# Altium integrated library TI Power Management Linear Regulator Single Channel LDO (400-7500mA).IntLib: 1408 symbols (part 1 of 60)
Pins are listed as number, name and electrical type; pins without a type are passive.

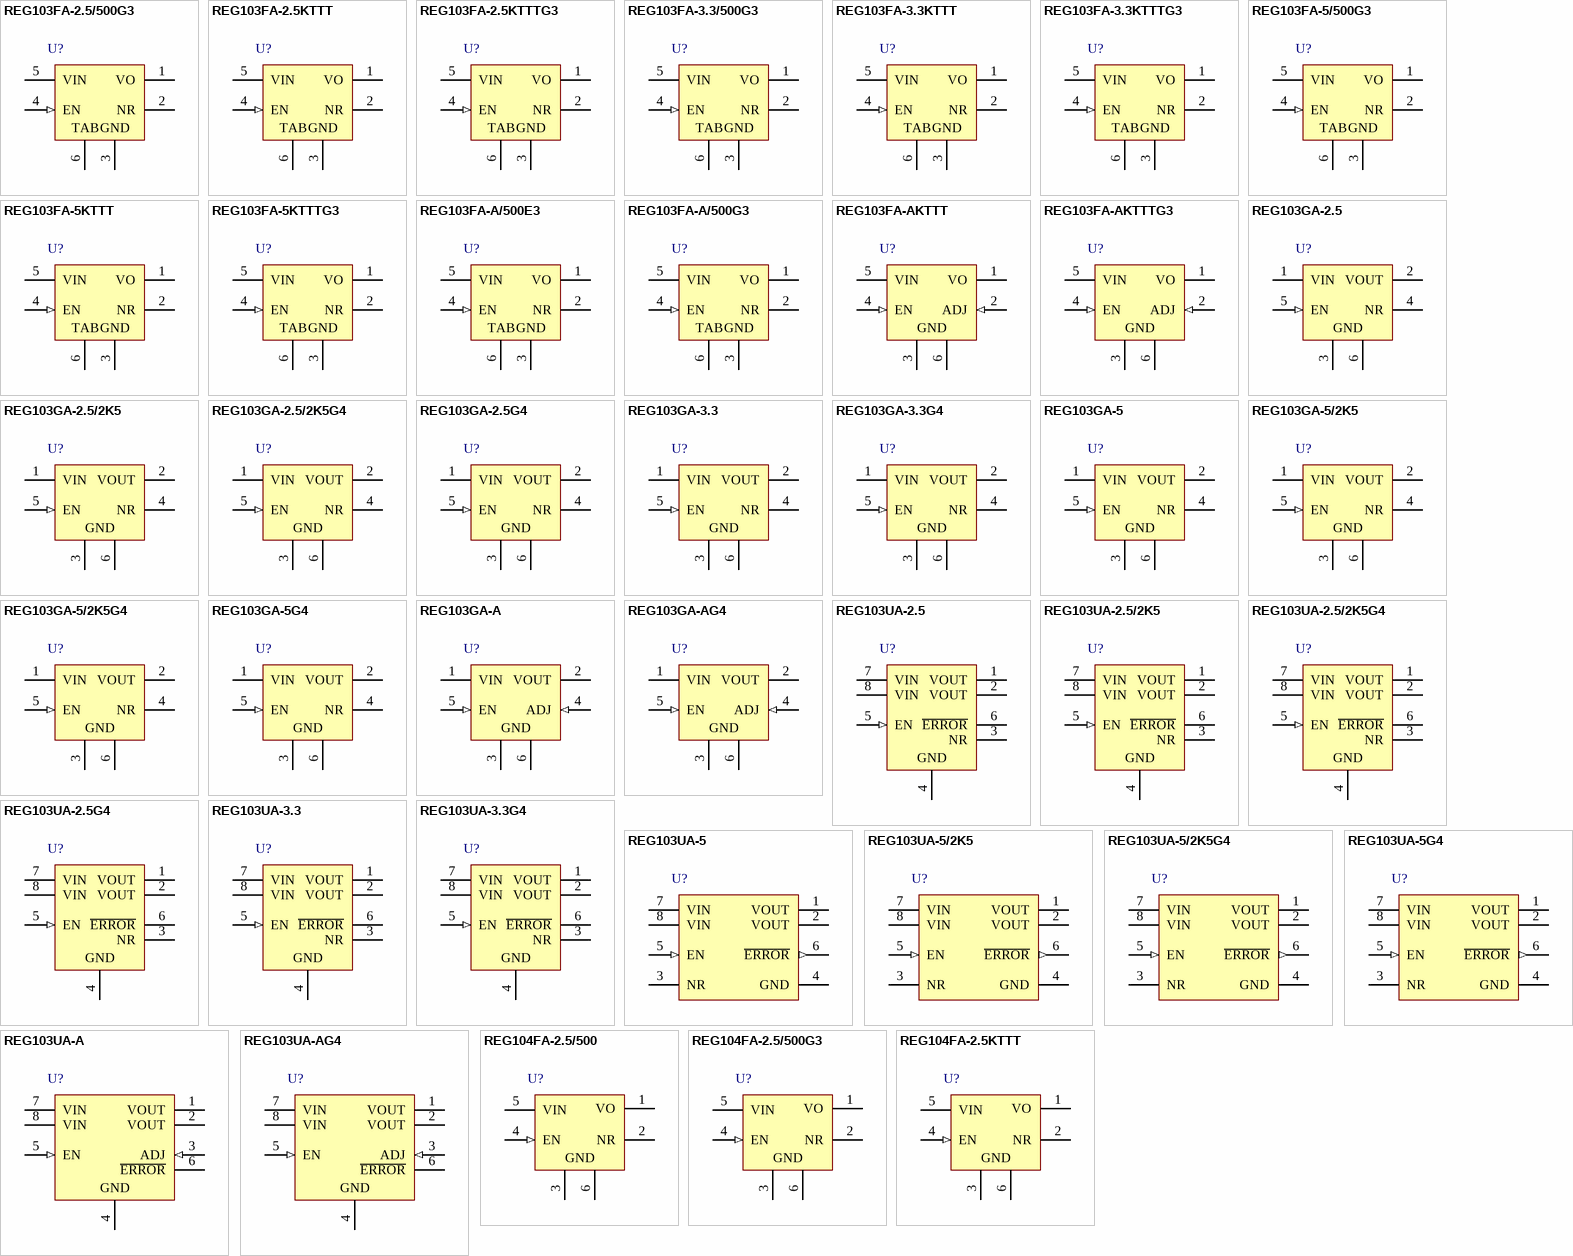
[diagram p0: symbols REG103FA-2.5/500G3 to REG104FA-2.5KTTT]

## REG103FA-2.5/500G3
designator U?
Single Output Fast Transient Response LDO, 500 mA, Fixed 2.5 V Output, 2.1 to 15 V Input, 5-pin DDPAK (KTT), -55 to 125 degC, Green (RoHS & no Sb/Br); Manufacturer: Texas Instruments; PartNumber: REG103FA-2.5/500G3; Accuracy(%): 2; Fixed Output Options(V): 2.5; Iout(Max)(A): 0.5; Power Good: TRUE; Rating: Catalog; SubFamily: Single Channel LDO; Vdo(Typ)(mV): 115; Vin(Max)(V): 15; Vin(Min)(V): 2.1; Vout Adj(Max)(V): 3; DatasheetVersion: SBVS010D; PackageVersion: 4200577-3/F; PackageReference: KTT5; PackageDescription: 3-Pin Plastic Flange Mount, Body 10.16 x 10.34 mm, Pitch 1.7 mm; Supplier 1: Digi-Key; Supplier Part Number 1: REG103FA-2.5/500G3-ND; Supplier 2: Mouser; Supplier Part Number 2: 595-REG103FA25500G3; Eco-Plan: Green (RoHS & no Sb/Br); Iq(Typ)(mA): 0.5; Vout Adj(Min)(V): 2.5; Mounting Technology: Surface Mount; Code_JEDEC: TO-263; ComponentLink1Description: Manufacturer URL; ComponentLink1URL: http://www.ti.com/; ComponentLink2Description: Datasheet; ComponentLink2URL: http://www.ti.com/general/docs/lit/getliterature.tsp?genericPartNumber=REG103-25&fileType=pdf; ComponentLink3Description: Package Specification; ComponentLink3URL: http://www.ti.com/litv/pdf/mpsf007e
footprint TI-KTT5_N (DPAK, 5-Leads, Body 10.16x8.925mm, Pitch 1.7mm, IPC Medium Density)
footprint TI-KTT5_L (DPAK, 5-Leads, Body 10.16x8.925mm, Pitch 1.7mm, IPC High Density)
footprint TI-KTT5_M (DPAK, 5-Leads, Body 10.16x8.925mm, Pitch 1.7mm, IPC Low Density)
pins: 1 VO (power), 2 NR, 3 GND (power), 4 EN (in), 5 VIN (power), 6 TAB (power)

## REG103FA-2.5KTTT
designator U?
Single Output Fast Transient Response LDO, 500 mA, Fixed 2.5 V Output, 2.1 to 15 V Input, 5-pin DDPAK (KTT), -55 to 125 degC, Green (RoHS & no Sb/Br); Manufacturer: Texas Instruments; PartNumber: REG103FA-2.5KTTT; Accuracy(%): 2; Fixed Output Options(V): 2.5; Iout(Max)(A): 0.5; Power Good: TRUE; Rating: Catalog; SubFamily: Single Channel LDO; Vdo(Typ)(mV): 115; Vin(Max)(V): 15; Vin(Min)(V): 2.1; Vout Adj(Max)(V): 3; DatasheetVersion: SBVS010D; PackageVersion: 4200577-3/F; PackageReference: KTT5; PackageDescription: 3-Pin Plastic Flange Mount, Body 10.16 x 10.34 mm, Pitch 1.7 mm; Supplier 1: Digi-Key; Supplier Part Number 1: 296-15993-2-ND; Supplier 2: Digi-Key; Supplier Part Number 2: 296-15993-1-ND; Supplier 3: Digi-Key; Supplier Part Number 3: 296-15993-6-ND; Supplier 4: Mouser; Supplier Part Number 4: 595-REG103FA-2.5KTTT; Eco-Plan: Green (RoHS & no Sb/Br); Iq(Typ)(mA): 0.5; Vout Adj(Min)(V): 2.5; Mounting Technology: Surface Mount; Code_JEDEC: TO-263; ComponentLink1Description: Manufacturer URL; ComponentLink1URL: http://www.ti.com/; ComponentLink2Description: Datasheet; ComponentLink2URL: http://www.ti.com/general/docs/lit/getliterature.tsp?genericPartNumber=REG103-25&fileType=pdf; ComponentLink3Description: Package Specification; ComponentLink3URL: http://www.ti.com/litv/pdf/mpsf007e
footprint TI-KTT5_N (DPAK, 5-Leads, Body 10.16x8.925mm, Pitch 1.7mm, IPC Medium Density)
footprint TI-KTT5_L (DPAK, 5-Leads, Body 10.16x8.925mm, Pitch 1.7mm, IPC High Density)
footprint TI-KTT5_M (DPAK, 5-Leads, Body 10.16x8.925mm, Pitch 1.7mm, IPC Low Density)
pins: 1 VO (power), 2 NR, 3 GND (power), 4 EN (in), 5 VIN (power), 6 TAB (power)

## REG103FA-2.5KTTTG3
designator U?
Single Output Fast Transient Response LDO, 500 mA, Fixed 2.5 V Output, 2.1 to 15 V Input, 5-pin DDPAK (KTT), -55 to 125 degC, Green (RoHS & no Sb/Br); Manufacturer: Texas Instruments; PartNumber: REG103FA-2.5KTTTG3; Accuracy(%): 2; Fixed Output Options(V): 2.5; Iout(Max)(A): 0.5; Power Good: TRUE; Rating: Catalog; SubFamily: Single Channel LDO; Vdo(Typ)(mV): 115; Vin(Max)(V): 15; Vin(Min)(V): 2.1; Vout Adj(Max)(V): 3; DatasheetVersion: SBVS010D; PackageVersion: 4200577-3/F; PackageReference: KTT5; PackageDescription: 3-Pin Plastic Flange Mount, Body 10.16 x 10.34 mm, Pitch 1.7 mm; Supplier 1: Digi-Key; Supplier Part Number 1: REG103FA-2.5KTTTG3-ND; Supplier 2: Mouser; Supplier Part Number 2: 595-REG103FA25KTTTG3; Eco-Plan: Green (RoHS & no Sb/Br); Iq(Typ)(mA): 0.5; Vout Adj(Min)(V): 2.5; Mounting Technology: Surface Mount; Code_JEDEC: TO-263; ComponentLink1Description: Manufacturer URL; ComponentLink1URL: http://www.ti.com/; ComponentLink2Description: Datasheet; ComponentLink2URL: http://www.ti.com/general/docs/lit/getliterature.tsp?genericPartNumber=REG103-25&fileType=pdf; ComponentLink3Description: Package Specification; ComponentLink3URL: http://www.ti.com/litv/pdf/mpsf007e
footprint TI-KTT5_N (DPAK, 5-Leads, Body 10.16x8.925mm, Pitch 1.7mm, IPC Medium Density)
footprint TI-KTT5_L (DPAK, 5-Leads, Body 10.16x8.925mm, Pitch 1.7mm, IPC High Density)
footprint TI-KTT5_M (DPAK, 5-Leads, Body 10.16x8.925mm, Pitch 1.7mm, IPC Low Density)
pins: 1 VO (power), 2 NR, 3 GND (power), 4 EN (in), 5 VIN (power), 6 TAB (power)

## REG103FA-3.3/500G3
designator U?
Single Output Fast Transient Response LDO, 500 mA, Fixed 3.3 V Output, 2.1 to 15 V Input, 5-pin DDPAK (KTT), -55 to 125 degC, Green (RoHS & no Sb/Br); Manufacturer: Texas Instruments; PartNumber: REG103FA-3.3/500G3; Accuracy(%): 2; Fixed Output Options(V): 3.3; Iout(Max)(A): 0.5; Power Good: TRUE; Rating: Catalog; SubFamily: Single Channel LDO; Vdo(Typ)(mV): 115; Vin(Max)(V): 15; Vin(Min)(V): 2.1; DatasheetVersion: SBVS010D; PackageVersion: 4200577-3/F; PackageReference: KTT5; PackageDescription: 3-Pin Plastic Flange Mount, Body 10.16 x 10.34 mm, Pitch 1.7 mm; Supplier 1: Digi-Key; Supplier Part Number 1: REG103FA-3.3/500G3-ND; Supplier 2: Mouser; Supplier Part Number 2: 595-REG103FA-33500G3; Eco-Plan: Green (RoHS & no Sb/Br); Iq(Typ)(mA): 0.5; Vout Adj(Max)(V): 3.3; Vout Adj(Min)(V): 3.3; Mounting Technology: Surface Mount; Code_JEDEC: TO-263; ComponentLink1Description: Manufacturer URL; ComponentLink1URL: http://www.ti.com/; ComponentLink2Description: Datasheet; ComponentLink2URL: http://www.ti.com/general/docs/lit/getliterature.tsp?genericPartNumber=REG103-33&fileType=pdf; ComponentLink3Description: Package Specification; ComponentLink3URL: http://www.ti.com/litv/pdf/mpsf007e
footprint TI-KTT5_N (DPAK, 5-Leads, Body 10.16x8.925mm, Pitch 1.7mm, IPC Medium Density)
footprint TI-KTT5_L (DPAK, 5-Leads, Body 10.16x8.925mm, Pitch 1.7mm, IPC High Density)
footprint TI-KTT5_M (DPAK, 5-Leads, Body 10.16x8.925mm, Pitch 1.7mm, IPC Low Density)
pins: 1 VO (power), 2 NR, 3 GND (power), 4 EN (in), 5 VIN (power), 6 TAB (power)

## REG103FA-3.3KTTT
designator U?
Single Output Fast Transient Response LDO, 500 mA, Fixed 3.3 V Output, 2.1 to 15 V Input, 5-pin DDPAK (KTT), -55 to 125 degC, Green (RoHS & no Sb/Br); Manufacturer: Texas Instruments; PartNumber: REG103FA-3.3KTTT; Accuracy(%): 2; Fixed Output Options(V): 3.3; Iout(Max)(A): 0.5; Power Good: TRUE; Rating: Catalog; SubFamily: Single Channel LDO; Vdo(Typ)(mV): 115; Vin(Max)(V): 15; Vin(Min)(V): 2.1; DatasheetVersion: SBVS010D; PackageVersion: 4200577-3/F; PackageReference: KTT5; PackageDescription: 3-Pin Plastic Flange Mount, Body 10.16 x 10.34 mm, Pitch 1.7 mm; Supplier 1: Digi-Key; Supplier Part Number 1: 296-15996-2-ND; Supplier 2: Digi-Key; Supplier Part Number 2: 296-15996-1-ND; Supplier 3: Digi-Key; Supplier Part Number 3: 296-15996-6-ND; Supplier 4: Newark; Supplier Part Number 4: 87H2549; Supplier 5: Mouser; Supplier Part Number 5: 595-REG103FA-3.3KTTT; Eco-Plan: Green (RoHS & no Sb/Br); Iq(Typ)(mA): 0.5; Vout Adj(Max)(V): 3.3; Vout Adj(Min)(V): 3.3; Mounting Technology: Surface Mount; Code_JEDEC: TO-263; ComponentLink1Description: Manufacturer URL; ComponentLink1URL: http://www.ti.com/; ComponentLink2Description: Datasheet; ComponentLink2URL: http://www.ti.com/general/docs/lit/getliterature.tsp?genericPartNumber=REG103-33&fileType=pdf; ComponentLink3Description: Package Specification; ComponentLink3URL: http://www.ti.com/litv/pdf/mpsf007e
footprint TI-KTT5_N (DPAK, 5-Leads, Body 10.16x8.925mm, Pitch 1.7mm, IPC Medium Density)
footprint TI-KTT5_L (DPAK, 5-Leads, Body 10.16x8.925mm, Pitch 1.7mm, IPC High Density)
footprint TI-KTT5_M (DPAK, 5-Leads, Body 10.16x8.925mm, Pitch 1.7mm, IPC Low Density)
pins: 1 VO (power), 2 NR, 3 GND (power), 4 EN (in), 5 VIN (power), 6 TAB (power)

## REG103FA-3.3KTTTG3
designator U?
Single Output Fast Transient Response LDO, 500 mA, Fixed 3.3 V Output, 2.1 to 15 V Input, 5-pin DDPAK (KTT), -55 to 125 degC, Green (RoHS & no Sb/Br); Manufacturer: Texas Instruments; PartNumber: REG103FA-3.3KTTTG3; Accuracy(%): 2; Fixed Output Options(V): 3.3; Iout(Max)(A): 0.5; Power Good: TRUE; Rating: Catalog; SubFamily: Single Channel LDO; Vdo(Typ)(mV): 115; Vin(Max)(V): 15; Vin(Min)(V): 2.1; DatasheetVersion: SBVS010D; PackageVersion: 4200577-3/F; PackageReference: KTT5; PackageDescription: 3-Pin Plastic Flange Mount, Body 10.16 x 10.34 mm, Pitch 1.7 mm; Supplier 1: Digi-Key; Supplier Part Number 1: REG103FA-3.3KTTTG3-ND; Supplier 2: Mouser; Supplier Part Number 2: 595-REG103FA33KTTTG3; Eco-Plan: Green (RoHS & no Sb/Br); Iq(Typ)(mA): 0.5; Vout Adj(Max)(V): 3.3; Vout Adj(Min)(V): 3.3; Mounting Technology: Surface Mount; Code_JEDEC: TO-263; ComponentLink1Description: Manufacturer URL; ComponentLink1URL: http://www.ti.com/; ComponentLink2Description: Datasheet; ComponentLink2URL: http://www.ti.com/general/docs/lit/getliterature.tsp?genericPartNumber=REG103-33&fileType=pdf; ComponentLink3Description: Package Specification; ComponentLink3URL: http://www.ti.com/litv/pdf/mpsf007e
footprint TI-KTT5_N (DPAK, 5-Leads, Body 10.16x8.925mm, Pitch 1.7mm, IPC Medium Density)
footprint TI-KTT5_L (DPAK, 5-Leads, Body 10.16x8.925mm, Pitch 1.7mm, IPC High Density)
footprint TI-KTT5_M (DPAK, 5-Leads, Body 10.16x8.925mm, Pitch 1.7mm, IPC Low Density)
pins: 1 VO (power), 2 NR, 3 GND (power), 4 EN (in), 5 VIN (power), 6 TAB (power)

## REG103FA-5/500G3
designator U?
Single Output Fast Transient Response LDO, 500 mA, Fixed 5 V Output, 2.1 to 15 V Input, 5-pin DDPAK (KTT), -55 to 125 degC; Manufacturer: Texas Instruments; PartNumber: REG103FA-5/500G3; Accuracy(%): 2; Eco-Plan: Green (RoHS & no Sb/Br); Fixed Output Options(V): 5; Iout(Max)(A): 0.5; Power Good: TRUE; SubFamily: Single Channel LDO; Vdo(Typ)(mV): 160; Vin(Max)(V): 15; Vin(Min)(V): 2.1; DatasheetVersion: SBVS010D; PackageVersion: 4200577-3/F; PackageReference: KTT5; PackageDescription: 3-Pin Plastic Flange Mount, Body 10.16 x 10.34 mm, Pitch 1.7 mm; Supplier 1: Digi-Key; Supplier Part Number 1: REG103FA-5/500G3-ND; Supplier 2: Mouser; Supplier Part Number 2: 595-REG103FA-5/500G3; Iq(Typ)(mA): 0.5; Vout Adj(Max)(V): 5; Vout Adj(Min)(V): 5; Mounting Technology: Surface Mount; Code_JEDEC: TO-263; ComponentLink1Description: Manufacturer URL; ComponentLink1URL: http://www.ti.com/; ComponentLink2Description: Datasheet; ComponentLink2URL: http://www.ti.com/general/docs/lit/getliterature.tsp?genericPartNumber=REG103-5&fileType=pdf; ComponentLink3Description: Package Specification; ComponentLink3URL: http://www.ti.com/litv/pdf/mpsf007e
footprint TI-KTT5_N (DPAK, 5-Leads, Body 10.16x8.925mm, Pitch 1.7mm, IPC Medium Density)
footprint TI-KTT5_L (DPAK, 5-Leads, Body 10.16x8.925mm, Pitch 1.7mm, IPC High Density)
footprint TI-KTT5_M (DPAK, 5-Leads, Body 10.16x8.925mm, Pitch 1.7mm, IPC Low Density)
pins: 1 VO (power), 2 NR, 3 GND (power), 4 EN (in), 5 VIN (power), 6 TAB (power)

## REG103FA-5KTTT
designator U?
Single Output Fast Transient Response LDO, 500 mA, Fixed 5 V Output, 2.1 to 15 V Input, 5-pin DDPAK (KTT), -55 to 125 degC, Green (RoHS & no Sb/Br); Manufacturer: Texas Instruments; PartNumber: REG103FA-5KTTT; Accuracy(%): 2; Fixed Output Options(V): 5; Iout(Max)(A): 0.5; Power Good: TRUE; SubFamily: Single Channel LDO; Vdo(Typ)(mV): 160; Vin(Max)(V): 15; Vin(Min)(V): 2.1; DatasheetVersion: SBVS010D; PackageVersion: 4200577-3/F; PackageReference: KTT5; PackageDescription: 3-Pin Plastic Flange Mount, Body 10.16 x 10.34 mm, Pitch 1.7 mm; Supplier 1: Digi-Key; Supplier Part Number 1: 296-15997-2-ND; Supplier 2: Digi-Key; Supplier Part Number 2: 296-15997-1-ND; Supplier 3: Digi-Key; Supplier Part Number 3: 296-15997-6-ND; Supplier 4: Newark; Supplier Part Number 4: 87H2551; Supplier 5: Mouser; Supplier Part Number 5: 595-REG103FA-5KTTT; Eco-Plan: Green (RoHS & no Sb/Br); Iq(Typ)(mA): 0.5; Vout Adj(Max)(V): 5; Vout Adj(Min)(V): 5; Mounting Technology: Surface Mount; Code_JEDEC: TO-263; ComponentLink1Description: Manufacturer URL; ComponentLink1URL: http://www.ti.com/; ComponentLink2Description: Datasheet; ComponentLink2URL: http://www.ti.com/general/docs/lit/getliterature.tsp?genericPartNumber=REG103-5&fileType=pdf; ComponentLink3Description: Package Specification; ComponentLink3URL: http://www.ti.com/litv/pdf/mpsf007e
footprint TI-KTT5_N (DPAK, 5-Leads, Body 10.16x8.925mm, Pitch 1.7mm, IPC Medium Density)
footprint TI-KTT5_L (DPAK, 5-Leads, Body 10.16x8.925mm, Pitch 1.7mm, IPC High Density)
footprint TI-KTT5_M (DPAK, 5-Leads, Body 10.16x8.925mm, Pitch 1.7mm, IPC Low Density)
pins: 1 VO (power), 2 NR, 3 GND (power), 4 EN (in), 5 VIN (power), 6 TAB (power)

## REG103FA-5KTTTG3
designator U?
Single Output Fast Transient Response LDO, 500 mA, Fixed 5 V Output, 2.1 to 15 V Input, 5-pin DDPAK (KTT), -55 to 125 degC, Green (RoHS & no Sb/Br); Manufacturer: Texas Instruments; PartNumber: REG103FA-5KTTTG3; Accuracy(%): 2; Fixed Output Options(V): 5; Iout(Max)(A): 0.5; Power Good: TRUE; SubFamily: Single Channel LDO; Vdo(Typ)(mV): 160; Vin(Max)(V): 15; Vin(Min)(V): 2.1; DatasheetVersion: SBVS010D; PackageVersion: 4200577-3/F; PackageReference: KTT5; PackageDescription: 3-Pin Plastic Flange Mount, Body 10.16 x 10.34 mm, Pitch 1.7 mm; Supplier 1: Digi-Key; Supplier Part Number 1: REG103FA-5KTTTG3-ND; Supplier 2: Mouser; Supplier Part Number 2: 595-REG103FA-5KTTTG3; Eco-Plan: Green (RoHS & no Sb/Br); Iq(Typ)(mA): 0.5; Vout Adj(Max)(V): 5; Vout Adj(Min)(V): 5; Mounting Technology: Surface Mount; Code_JEDEC: TO-263; ComponentLink1Description: Manufacturer URL; ComponentLink1URL: http://www.ti.com/; ComponentLink2Description: Datasheet; ComponentLink2URL: http://www.ti.com/general/docs/lit/getliterature.tsp?genericPartNumber=REG103-5&fileType=pdf; ComponentLink3Description: Package Specification; ComponentLink3URL: http://www.ti.com/litv/pdf/mpsf007e
footprint TI-KTT5_N (DPAK, 5-Leads, Body 10.16x8.925mm, Pitch 1.7mm, IPC Medium Density)
footprint TI-KTT5_L (DPAK, 5-Leads, Body 10.16x8.925mm, Pitch 1.7mm, IPC High Density)
footprint TI-KTT5_M (DPAK, 5-Leads, Body 10.16x8.925mm, Pitch 1.7mm, IPC Low Density)
pins: 1 VO (power), 2 NR, 3 GND (power), 4 EN (in), 5 VIN (power), 6 TAB (power)

## REG103FA-A/500E3
designator U?
Single Output Fast Transient Response LDO, 500 mA, Fixed 5 V Output, 2.1 to 15 V Input, 5-pin DDPAK (KTT), -55 to 125 degC, Green (RoHS & no Sb/Br); Manufacturer: Texas Instruments; PartNumber: REG103FA-A/500E3; Accuracy(%): 2; Fixed Output Options(V): 5; Iout(Max)(A): 0.5; SubFamily: Single Channel LDO; Vdo(Typ)(mV): 160; Vin(Max)(V): 15; Vin(Min)(V): 2.1; DatasheetVersion: SBVS010D; PackageVersion: 4200577-3/F; PackageReference: KTT5; PackageDescription: 3-Pin Plastic Flange Mount, Body 10.16 x 10.34 mm, Pitch 1.7 mm; Supplier 1: Digi-Key; Supplier Part Number 1: REG103FA-A/500E3-ND; Supplier 2: Mouser; Supplier Part Number 2: 595-REG103FA-A/500E3; Eco-Plan: Green (RoHS & no Sb/Br); Iq(Typ)(mA): 0.5; Vout Adj(Max)(V): 5; Vout Adj(Min)(V): 5; Mounting Technology: Surface Mount; Code_JEDEC: TO-263; ComponentLink1Description: Manufacturer URL; ComponentLink1URL: http://www.ti.com/; ComponentLink2Description: Datasheet; ComponentLink2URL: http://www.ti.com/general/docs/lit/getliterature.tsp?genericPartNumber=REG103-5&fileType=pdf; ComponentLink3Description: Package Specification; ComponentLink3URL: http://www.ti.com/litv/pdf/mpsf007e
footprint TI-KTT5_N (DPAK, 5-Leads, Body 10.16x8.925mm, Pitch 1.7mm, IPC Medium Density)
footprint TI-KTT5_L (DPAK, 5-Leads, Body 10.16x8.925mm, Pitch 1.7mm, IPC High Density)
footprint TI-KTT5_M (DPAK, 5-Leads, Body 10.16x8.925mm, Pitch 1.7mm, IPC Low Density)
pins: 1 VO (power), 2 NR, 3 GND (power), 4 EN (in), 5 VIN (power), 6 TAB (power)

## REG103FA-A/500G3
designator U?
Single Output Fast Transient Response LDO, 500 mA, Fixed 5 V Output, 2.1 to 15 V Input, 5-pin DDPAK (KTT), -55 to 125 degC, Green (RoHS & no Sb/Br); Manufacturer: Texas Instruments; PartNumber: REG103FA-A/500G3; Accuracy(%): 2; Fixed Output Options(V): 5; Iout(Max)(A): 0.5; SubFamily: Single Channel LDO; Vdo(Typ)(mV): 160; Vin(Max)(V): 15; Vin(Min)(V): 2.1; DatasheetVersion: SBVS010D; PackageVersion: 4200577-3/F; PackageReference: KTT5; PackageDescription: 3-Pin Plastic Flange Mount, Body 10.16 x 10.34 mm, Pitch 1.7 mm; Supplier 1: Digi-Key; Supplier Part Number 1: REG103FA-A/500G3-ND; Supplier 2: Mouser; Supplier Part Number 2: 595-REG103FA-A/500G3; Eco-Plan: Green (RoHS & no Sb/Br); Iq(Typ)(mA): 0.5; Vout Adj(Max)(V): 5; Vout Adj(Min)(V): 5; Mounting Technology: Surface Mount; Code_JEDEC: TO-263; ComponentLink1Description: Manufacturer URL; ComponentLink1URL: http://www.ti.com/; ComponentLink2Description: Datasheet; ComponentLink2URL: http://www.ti.com/general/docs/lit/getliterature.tsp?genericPartNumber=REG103-5&fileType=pdf; ComponentLink3Description: Package Specification; ComponentLink3URL: http://www.ti.com/litv/pdf/mpsf007e
footprint TI-KTT5_N (DPAK, 5-Leads, Body 10.16x8.925mm, Pitch 1.7mm, IPC Medium Density)
footprint TI-KTT5_L (DPAK, 5-Leads, Body 10.16x8.925mm, Pitch 1.7mm, IPC High Density)
footprint TI-KTT5_M (DPAK, 5-Leads, Body 10.16x8.925mm, Pitch 1.7mm, IPC Low Density)
pins: 1 VO (power), 2 NR, 3 GND (power), 4 EN (in), 5 VIN (power), 6 TAB (power)

## REG103FA-AKTTT
designator U?
Single Output Fast Transient Response LDO, 500 mA, Adjustable 1.295 to 5.5 V Output, 2.1 to 15 V Input, 5-pin DDPAK (KTT), -55 to 125 degC, Green (RoHS & no Sb/Br); Manufacturer: Texas Instruments; PartNumber: REG103FA-AKTTT; Accuracy(%): 2; Iout(Max)(A): 0.5; Rating: Catalog; SubFamily: Single Channel LDO; Vdo(Typ)(mV): 115; Vin(Max)(V): 15; Vin(Min)(V): 2.1; Vout Adj(Max)(V): 5.5; Vout Adj(Min)(V): 1.295; DatasheetVersion: SBVS010D; PackageVersion: 4200577-3/F; PackageReference: KTT5; PackageDescription: 3-Pin Plastic Flange Mount, Body 10.16 x 10.34 mm, Pitch 1.7 mm; Supplier 1: Digi-Key; Supplier Part Number 1: 296-15998-2-ND; Supplier 2: Digi-Key; Supplier Part Number 2: 296-15998-1-ND; Supplier 3: Digi-Key; Supplier Part Number 3: 296-15998-6-ND; Supplier 4: Farnell; Supplier Part Number 4: 1755086RL; Supplier 5: Farnell; Supplier Part Number 5: 1755086; Supplier 6: Newark; Supplier Part Number 6: 34R8290; Supplier 7: Newark; Supplier Part Number 7: 87H2546; Supplier 8: Mouser; Supplier Part Number 8: 595-REG103FA-AKTTT; Eco-Plan: Green (RoHS & no Sb/Br); Iq(Typ)(mA): 0.5; Mounting Technology: Surface Mount; Code_JEDEC: TO-263; ComponentLink1Description: Manufacturer URL; ComponentLink1URL: http://www.ti.com/; ComponentLink2Description: Datasheet; ComponentLink2URL: http://www.ti.com/general/docs/lit/getliterature.tsp?genericPartNumber=REG103-A&fileType=pdf; ComponentLink3Description: Package Specification; ComponentLink3URL: http://www.ti.com/litv/pdf/mpsf007e
footprint TI-KTT5_N (DPAK, 5-Leads, Body 10.16x8.925mm, Pitch 1.7mm, IPC Medium Density)
footprint TI-KTT5_L (DPAK, 5-Leads, Body 10.16x8.925mm, Pitch 1.7mm, IPC High Density)
footprint TI-KTT5_M (DPAK, 5-Leads, Body 10.16x8.925mm, Pitch 1.7mm, IPC Low Density)
pins: 1 VO (power), 2 ADJ (in), 3 GND (power), 4 EN (in), 5 VIN (power), 6 GND (power)

## REG103FA-AKTTTG3
designator U?
Single Output Fast Transient Response LDO, 500 mA, Adjustable 1.295 to 5.5 V Output, 2.1 to 15 V Input, 5-pin DDPAK (KTT), -55 to 125 degC, Green (RoHS & no Sb/Br); Manufacturer: Texas Instruments; PartNumber: REG103FA-AKTTTG3; Accuracy(%): 2; Iout(Max)(A): 0.5; Rating: Catalog; SubFamily: Single Channel LDO; Vdo(Typ)(mV): 115; Vin(Max)(V): 15; Vin(Min)(V): 2.1; Vout Adj(Max)(V): 5.5; Vout Adj(Min)(V): 1.295; DatasheetVersion: SBVS010D; PackageVersion: 4200577-3/F; PackageReference: KTT5; PackageDescription: 3-Pin Plastic Flange Mount, Body 10.16 x 10.34 mm, Pitch 1.7 mm; Supplier 1: Digi-Key; Supplier Part Number 1: REG103FA-AKTTTG3-ND; Supplier 2: Mouser; Supplier Part Number 2: 595-REG103FA-AKTTTG3; Eco-Plan: Green (RoHS & no Sb/Br); Iq(Typ)(mA): 0.5; Mounting Technology: Surface Mount; Code_JEDEC: TO-263; ComponentLink1Description: Manufacturer URL; ComponentLink1URL: http://www.ti.com/; ComponentLink2Description: Datasheet; ComponentLink2URL: http://www.ti.com/general/docs/lit/getliterature.tsp?genericPartNumber=REG103-A&fileType=pdf; ComponentLink3Description: Package Specification; ComponentLink3URL: http://www.ti.com/litv/pdf/mpsf007e
footprint TI-KTT5_N (DPAK, 5-Leads, Body 10.16x8.925mm, Pitch 1.7mm, IPC Medium Density)
footprint TI-KTT5_L (DPAK, 5-Leads, Body 10.16x8.925mm, Pitch 1.7mm, IPC High Density)
footprint TI-KTT5_M (DPAK, 5-Leads, Body 10.16x8.925mm, Pitch 1.7mm, IPC Low Density)
pins: 1 VO (power), 2 ADJ (in), 3 GND (power), 4 EN (in), 5 VIN (power), 6 GND (power)

## REG103GA-2.5
designator U?
Single Output Fast Transient Response LDO, 500 mA, Fixed 2.5 V Output, 2.1 to 15 V Input, 6-pin SOT-223 (DCQ), -55 to 125 degC, Green (RoHS & no Sb/Br); Manufacturer: Texas Instruments; PartNumber: REG103GA-2.5; Accuracy(%): 2; Fixed Output Options(V): 2.5; Iout(Max)(A): 0.5; Power Good: TRUE; Rating: Catalog; SubFamily: Single Channel LDO; Vdo(Typ)(mV): 115; Vin(Max)(V): 15; Vin(Min)(V): 2.1; Vout Adj(Max)(V): 3; DatasheetVersion: SBVS010D; PackageVersion: 4202109/D; PackageReference: DCQ6; PackageDescription: 6-Pin Plastic Small Outline, Body 3.5 x 6.5 mm, Pitch 1.27 mm; Supplier 1: Digi-Key; Supplier Part Number 1: REG103GA-2.5-ND; Supplier 2: Newark; Supplier Part Number 2: 88K1161; Supplier 3: Mouser; Supplier Part Number 3: 595-REG103GA-2.5; Eco-Plan: Green (RoHS & no Sb/Br); Iq(Typ)(mA): 0.5; Vout Adj(Min)(V): 2.5; Mounting Technology: Surface Mount; ComponentLink1Description: Manufacturer URL; ComponentLink1URL: http://www.ti.com/; ComponentLink2Description: Datasheet; ComponentLink2URL: http://www.ti.com/general/docs/lit/getliterature.tsp?genericPartNumber=REG103-25&fileType=pdf; ComponentLink3Description: Package Specification; ComponentLink3URL: http://www.ti.com/litv/pdf/mpds098c
footprint TI-DCQ6_N (SOT223, 6-Leads, Body 6.5x3.5mm, Pitch 1.27mm, IPC Medium Density)
footprint TI-DCQ6_L (SOT223, 6-Leads, Body 6.5x3.5mm, Pitch 1.27mm, IPC High Density)
footprint TI-DCQ6_M (SOT223, 6-Leads, Body 6.5x3.5mm, Pitch 1.27mm, IPC Low Density)
pins: 1 VIN (power), 2 VOUT (power), 3 GND (power), 4 NR, 5 EN (in), 6 GND (power)

## REG103GA-2.5/2K5
designator U?
Single Output Fast Transient Response LDO, 500 mA, Fixed 2.5 V Output, 2.1 to 15 V Input, 6-pin SOT-223 (DCQ), -55 to 125 degC, Green (RoHS & no Sb/Br); Manufacturer: Texas Instruments; PartNumber: REG103GA-2.5/2K5; Accuracy(%): 2; Fixed Output Options(V): 2.5; Iout(Max)(A): 0.5; Power Good: TRUE; Rating: Catalog; SubFamily: Single Channel LDO; Vdo(Typ)(mV): 115; Vin(Max)(V): 15; Vin(Min)(V): 2.1; Vout Adj(Max)(V): 3; DatasheetVersion: SBVS010D; PackageVersion: 4202109/D; PackageReference: DCQ6; PackageDescription: 6-Pin Plastic Small Outline, Body 3.5 x 6.5 mm, Pitch 1.27 mm; Supplier 1: Digi-Key; Supplier Part Number 1: REG103GA-2.5/2K5-ND; Supplier 2: Mouser; Supplier Part Number 2: 595-REG103GA-2.5/2K5; Eco-Plan: Green (RoHS & no Sb/Br); Iq(Typ)(mA): 0.5; Vout Adj(Min)(V): 2.5; Mounting Technology: Surface Mount; ComponentLink1Description: Manufacturer URL; ComponentLink1URL: http://www.ti.com/; ComponentLink2Description: Datasheet; ComponentLink2URL: http://www.ti.com/general/docs/lit/getliterature.tsp?genericPartNumber=REG103-25&fileType=pdf; ComponentLink3Description: Package Specification; ComponentLink3URL: http://www.ti.com/litv/pdf/mpds098c
footprint TI-DCQ6_N (SOT223, 6-Leads, Body 6.5x3.5mm, Pitch 1.27mm, IPC Medium Density)
footprint TI-DCQ6_L (SOT223, 6-Leads, Body 6.5x3.5mm, Pitch 1.27mm, IPC High Density)
footprint TI-DCQ6_M (SOT223, 6-Leads, Body 6.5x3.5mm, Pitch 1.27mm, IPC Low Density)
pins: 1 VIN (power), 2 VOUT (power), 3 GND (power), 4 NR, 5 EN (in), 6 GND (power)

## REG103GA-2.5/2K5G4
designator U?
Single Output Fast Transient Response LDO, 500 mA, Fixed 2.5 V Output, 2.1 to 15 V Input, 6-pin SOT-223 (DCQ), -55 to 125 degC, Green (RoHS & no Sb/Br); Manufacturer: Texas Instruments; PartNumber: REG103GA-2.5/2K5G4; Accuracy(%): 2; Fixed Output Options(V): 2.5; Iout(Max)(A): 0.5; Power Good: TRUE; Rating: Catalog; SubFamily: Single Channel LDO; Vdo(Typ)(mV): 115; Vin(Max)(V): 15; Vin(Min)(V): 2.1; Vout Adj(Max)(V): 3; DatasheetVersion: SBVS010D; PackageVersion: 4202109/D; PackageReference: DCQ6; PackageDescription: 6-Pin Plastic Small Outline, Body 3.5 x 6.5 mm, Pitch 1.27 mm; Supplier 1: Digi-Key; Supplier Part Number 1: REG103GA-2.5/2K5G4-ND; Supplier 2: Mouser; Supplier Part Number 2: 595-REG103GA-252K5G4; Eco-Plan: Green (RoHS & no Sb/Br); Iq(Typ)(mA): 0.5; Vout Adj(Min)(V): 2.5; Mounting Technology: Surface Mount; ComponentLink1Description: Manufacturer URL; ComponentLink1URL: http://www.ti.com/; ComponentLink2Description: Datasheet; ComponentLink2URL: http://www.ti.com/general/docs/lit/getliterature.tsp?genericPartNumber=REG103-25&fileType=pdf; ComponentLink3Description: Package Specification; ComponentLink3URL: http://www.ti.com/litv/pdf/mpds098c
footprint TI-DCQ6_N (SOT223, 6-Leads, Body 6.5x3.5mm, Pitch 1.27mm, IPC Medium Density)
footprint TI-DCQ6_L (SOT223, 6-Leads, Body 6.5x3.5mm, Pitch 1.27mm, IPC High Density)
footprint TI-DCQ6_M (SOT223, 6-Leads, Body 6.5x3.5mm, Pitch 1.27mm, IPC Low Density)
pins: 1 VIN (power), 2 VOUT (power), 3 GND (power), 4 NR, 5 EN (in), 6 GND (power)

## REG103GA-2.5G4
designator U?
Single Output Fast Transient Response LDO, 500 mA, Fixed 2.5 V Output, 2.1 to 15 V Input, 6-pin SOT-223 (DCQ), -55 to 125 degC, Green (RoHS & no Sb/Br); Manufacturer: Texas Instruments; PartNumber: REG103GA-2.5G4; Accuracy(%): 2; Fixed Output Options(V): 2.5; Iout(Max)(A): 0.5; Power Good: TRUE; Rating: Catalog; SubFamily: Single Channel LDO; Vdo(Typ)(mV): 115; Vin(Max)(V): 15; Vin(Min)(V): 2.1; Vout Adj(Max)(V): 3; DatasheetVersion: SBVS010D; PackageVersion: 4202109/D; PackageReference: DCQ6; PackageDescription: 6-Pin Plastic Small Outline, Body 3.5 x 6.5 mm, Pitch 1.27 mm; Supplier 1: Digi-Key; Supplier Part Number 1: REG103GA-2.5G4-ND; Supplier 2: Mouser; Supplier Part Number 2: 595-REG103GA-2.5G4; Eco-Plan: Green (RoHS & no Sb/Br); Iq(Typ)(mA): 0.5; Vout Adj(Min)(V): 2.5; Mounting Technology: Surface Mount; ComponentLink1Description: Manufacturer URL; ComponentLink1URL: http://www.ti.com/; ComponentLink2Description: Datasheet; ComponentLink2URL: http://www.ti.com/general/docs/lit/getliterature.tsp?genericPartNumber=REG103-25&fileType=pdf; ComponentLink3Description: Package Specification; ComponentLink3URL: http://www.ti.com/litv/pdf/mpds098c
footprint TI-DCQ6_N (SOT223, 6-Leads, Body 6.5x3.5mm, Pitch 1.27mm, IPC Medium Density)
footprint TI-DCQ6_L (SOT223, 6-Leads, Body 6.5x3.5mm, Pitch 1.27mm, IPC High Density)
footprint TI-DCQ6_M (SOT223, 6-Leads, Body 6.5x3.5mm, Pitch 1.27mm, IPC Low Density)
pins: 1 VIN (power), 2 VOUT (power), 3 GND (power), 4 NR, 5 EN (in), 6 GND (power)

## REG103GA-3.3
designator U?
Single Output Fast Transient Response LDO, 500 mA, Fixed 3.3 V Output, 2.1 to 15 V Input, 6-pin SOT-223 (DCQ), -55 to 125 degC, Green (RoHS & no Sb/Br); Manufacturer: Texas Instruments; PartNumber: REG103GA-3.3; Accuracy(%): 2; Fixed Output Options(V): 3.3; Iout(Max)(A): 0.5; Power Good: TRUE; Rating: Catalog; SubFamily: Single Channel LDO; Vdo(Typ)(mV): 115; Vin(Max)(V): 15; Vin(Min)(V): 2.1; DatasheetVersion: SBVS010D; PackageVersion: 4202109/D; PackageReference: DCQ6; PackageDescription: 6-Pin Plastic Small Outline, Body 3.5 x 6.5 mm, Pitch 1.27 mm; Supplier 1: Digi-Key; Supplier Part Number 1: REG103GA-3.3-ND; Supplier 2: Newark; Supplier Part Number 2: 75C7511; Supplier 3: Mouser; Supplier Part Number 3: 595-REG103GA-3.3; Eco-Plan: Green (RoHS & no Sb/Br); Iq(Typ)(mA): 0.5; Vout Adj(Max)(V): 3.3; Vout Adj(Min)(V): 3.3; Mounting Technology: Surface Mount; ComponentLink1Description: Manufacturer URL; ComponentLink1URL: http://www.ti.com/; ComponentLink2Description: Datasheet; ComponentLink2URL: http://www.ti.com/general/docs/lit/getliterature.tsp?genericPartNumber=REG103-33&fileType=pdf; ComponentLink3Description: Package Specification; ComponentLink3URL: http://www.ti.com/litv/pdf/mpds098c
footprint TI-DCQ6_N (SOT223, 6-Leads, Body 6.5x3.5mm, Pitch 1.27mm, IPC Medium Density)
footprint TI-DCQ6_L (SOT223, 6-Leads, Body 6.5x3.5mm, Pitch 1.27mm, IPC High Density)
footprint TI-DCQ6_M (SOT223, 6-Leads, Body 6.5x3.5mm, Pitch 1.27mm, IPC Low Density)
pins: 1 VIN (power), 2 VOUT (power), 3 GND (power), 4 NR, 5 EN (in), 6 GND (power)

## REG103GA-3.3G4
designator U?
Single Output Fast Transient Response LDO, 500 mA, Fixed 3.3 V Output, 2.1 to 15 V Input, 6-pin SOT-223 (DCQ), -55 to 125 degC, Green (RoHS & no Sb/Br); Manufacturer: Texas Instruments; PartNumber: REG103GA-3.3G4; Accuracy(%): 2; Fixed Output Options(V): 3.3; Iout(Max)(A): 0.5; Power Good: TRUE; Rating: Catalog; SubFamily: Single Channel LDO; Vdo(Typ)(mV): 115; Vin(Max)(V): 15; Vin(Min)(V): 2.1; DatasheetVersion: SBVS010D; PackageVersion: 4202109/D; PackageReference: DCQ6; PackageDescription: 6-Pin Plastic Small Outline, Body 3.5 x 6.5 mm, Pitch 1.27 mm; Supplier 1: Digi-Key; Supplier Part Number 1: REG103GA-3.3G4-ND; Supplier 2: Farnell; Supplier Part Number 2: 1207244; Supplier 3: Newark; Supplier Part Number 3: 67K8303; Supplier 4: Mouser; Supplier Part Number 4: 595-REG103GA-3.3G4; Eco-Plan: Green (RoHS & no Sb/Br); Iq(Typ)(mA): 0.5; Vout Adj(Max)(V): 3.3; Vout Adj(Min)(V): 3.3; Mounting Technology: Surface Mount; ComponentLink1Description: Manufacturer URL; ComponentLink1URL: http://www.ti.com/; ComponentLink2Description: Datasheet; ComponentLink2URL: http://www.ti.com/general/docs/lit/getliterature.tsp?genericPartNumber=REG103-33&fileType=pdf; ComponentLink3Description: Package Specification; ComponentLink3URL: http://www.ti.com/litv/pdf/mpds098c
footprint TI-DCQ6_N (SOT223, 6-Leads, Body 6.5x3.5mm, Pitch 1.27mm, IPC Medium Density)
footprint TI-DCQ6_L (SOT223, 6-Leads, Body 6.5x3.5mm, Pitch 1.27mm, IPC High Density)
footprint TI-DCQ6_M (SOT223, 6-Leads, Body 6.5x3.5mm, Pitch 1.27mm, IPC Low Density)
pins: 1 VIN (power), 2 VOUT (power), 3 GND (power), 4 NR, 5 EN (in), 6 GND (power)

## REG103GA-5
designator U?
Single Output Fast Transient Response LDO, 500 mA, Fixed 5 V Output, 2.1 to 15 V Input, 6-pin SOT-223 (DCQ), -55 to 125 degC, Green (RoHS & no Sb/Br); Manufacturer: Texas Instruments; PartNumber: REG103GA-5; Accuracy(%): 2; Fixed Output Options(V): 5; Iout(Max)(A): 0.5; Power Good: TRUE; SubFamily: Single Channel LDO; Vdo(Typ)(mV): 160; Vin(Max)(V): 15; Vin(Min)(V): 2.1; DatasheetVersion: SBVS010D; PackageVersion: 4202109/D; PackageReference: DCQ6; PackageDescription: 6-Pin Plastic Small Outline, Body 3.5 x 6.5 mm, Pitch 1.27 mm; Supplier 1: Digi-Key; Supplier Part Number 1: REG103GA-5-ND; Supplier 2: Newark; Supplier Part Number 2: 75C7514; Supplier 3: Mouser; Supplier Part Number 3: 595-REG103GA-5; Eco-Plan: Green (RoHS & no Sb/Br); Iq(Typ)(mA): 0.5; Vout Adj(Max)(V): 5; Vout Adj(Min)(V): 5; Mounting Technology: Surface Mount; ComponentLink1Description: Manufacturer URL; ComponentLink1URL: http://www.ti.com/; ComponentLink2Description: Datasheet; ComponentLink2URL: http://www.ti.com/general/docs/lit/getliterature.tsp?genericPartNumber=REG103-5&fileType=pdf; ComponentLink3Description: Package Specification; ComponentLink3URL: http://www.ti.com/litv/pdf/mpds098c
footprint TI-DCQ6_N (SOT223, 6-Leads, Body 6.5x3.5mm, Pitch 1.27mm, IPC Medium Density)
footprint TI-DCQ6_L (SOT223, 6-Leads, Body 6.5x3.5mm, Pitch 1.27mm, IPC High Density)
footprint TI-DCQ6_M (SOT223, 6-Leads, Body 6.5x3.5mm, Pitch 1.27mm, IPC Low Density)
pins: 1 VIN (power), 2 VOUT (power), 3 GND (power), 4 NR, 5 EN (in), 6 GND (power)

## REG103GA-5/2K5
designator U?
Single Output Fast Transient Response LDO, 500 mA, Fixed 5 V Output, 2.1 to 15 V Input, 6-pin SOT-223 (DCQ), -55 to 125 degC, Green (RoHS & no Sb/Br); Manufacturer: Texas Instruments; PartNumber: REG103GA-5/2K5; Accuracy(%): 2; Fixed Output Options(V): 5; Iout(Max)(A): 0.5; Power Good: TRUE; SubFamily: Single Channel LDO; Vdo(Typ)(mV): 160; Vin(Max)(V): 15; Vin(Min)(V): 2.1; DatasheetVersion: SBVS010D; PackageVersion: 4202109/D; PackageReference: DCQ6; PackageDescription: 6-Pin Plastic Small Outline, Body 3.5 x 6.5 mm, Pitch 1.27 mm; Supplier 1: Digi-Key; Supplier Part Number 1: REG103GA-5/2K5-ND; Supplier 2: Mouser; Supplier Part Number 2: 595-REG103GA-5/2K5; Eco-Plan: Green (RoHS & no Sb/Br); Iq(Typ)(mA): 0.5; Vout Adj(Max)(V): 5; Vout Adj(Min)(V): 5; Mounting Technology: Surface Mount; ComponentLink1Description: Manufacturer URL; ComponentLink1URL: http://www.ti.com/; ComponentLink2Description: Datasheet; ComponentLink2URL: http://www.ti.com/general/docs/lit/getliterature.tsp?genericPartNumber=REG103-5&fileType=pdf; ComponentLink3Description: Package Specification; ComponentLink3URL: http://www.ti.com/litv/pdf/mpds098c
footprint TI-DCQ6_N (SOT223, 6-Leads, Body 6.5x3.5mm, Pitch 1.27mm, IPC Medium Density)
footprint TI-DCQ6_L (SOT223, 6-Leads, Body 6.5x3.5mm, Pitch 1.27mm, IPC High Density)
footprint TI-DCQ6_M (SOT223, 6-Leads, Body 6.5x3.5mm, Pitch 1.27mm, IPC Low Density)
pins: 1 VIN (power), 2 VOUT (power), 3 GND (power), 4 NR, 5 EN (in), 6 GND (power)

## REG103GA-5/2K5G4
designator U?
Single Output Fast Transient Response LDO, 500 mA, Fixed 5 V Output, 2.1 to 15 V Input, 6-pin SOT-223 (DCQ), -55 to 125 degC, Green (RoHS & no Sb/Br); Manufacturer: Texas Instruments; PartNumber: REG103GA-5/2K5G4; Accuracy(%): 2; Fixed Output Options(V): 5; Iout(Max)(A): 0.5; Power Good: TRUE; SubFamily: Single Channel LDO; Vdo(Typ)(mV): 160; Vin(Max)(V): 15; Vin(Min)(V): 2.1; DatasheetVersion: SBVS010D; PackageVersion: 4202109/D; PackageReference: DCQ6; PackageDescription: 6-Pin Plastic Small Outline, Body 3.5 x 6.5 mm, Pitch 1.27 mm; Supplier 1: Digi-Key; Supplier Part Number 1: REG103GA-5/2K5G4-ND; Supplier 2: Mouser; Supplier Part Number 2: 595-REG103GA-5/2K5G4; Eco-Plan: Green (RoHS & no Sb/Br); Iq(Typ)(mA): 0.5; Vout Adj(Max)(V): 5; Vout Adj(Min)(V): 5; Mounting Technology: Surface Mount; ComponentLink1Description: Manufacturer URL; ComponentLink1URL: http://www.ti.com/; ComponentLink2Description: Datasheet; ComponentLink2URL: http://www.ti.com/general/docs/lit/getliterature.tsp?genericPartNumber=REG103-5&fileType=pdf; ComponentLink3Description: Package Specification; ComponentLink3URL: http://www.ti.com/litv/pdf/mpds098c
footprint TI-DCQ6_N (SOT223, 6-Leads, Body 6.5x3.5mm, Pitch 1.27mm, IPC Medium Density)
footprint TI-DCQ6_L (SOT223, 6-Leads, Body 6.5x3.5mm, Pitch 1.27mm, IPC High Density)
footprint TI-DCQ6_M (SOT223, 6-Leads, Body 6.5x3.5mm, Pitch 1.27mm, IPC Low Density)
pins: 1 VIN (power), 2 VOUT (power), 3 GND (power), 4 NR, 5 EN (in), 6 GND (power)

## REG103GA-5G4
designator U?
Single Output Fast Transient Response LDO, 500 mA, Fixed 5 V Output, 2.1 to 15 V Input, 6-pin SOT-223 (DCQ), -55 to 125 degC, Green (RoHS & no Sb/Br); Manufacturer: Texas Instruments; PartNumber: REG103GA-5G4; Accuracy(%): 2; Fixed Output Options(V): 5; Iout(Max)(A): 0.5; Power Good: TRUE; SubFamily: Single Channel LDO; Vdo(Typ)(mV): 160; Vin(Max)(V): 15; Vin(Min)(V): 2.1; DatasheetVersion: SBVS010D; PackageVersion: 4202109/D; PackageReference: DCQ6; PackageDescription: 6-Pin Plastic Small Outline, Body 3.5 x 6.5 mm, Pitch 1.27 mm; Supplier 1: Digi-Key; Supplier Part Number 1: REG103GA-5G4-ND; Supplier 2: Farnell; Supplier Part Number 2: 1207245; Supplier 3: Newark; Supplier Part Number 3: 24M6809; Supplier 4: Mouser; Supplier Part Number 4: 595-REG103GA-5G4; Eco-Plan: Green (RoHS & no Sb/Br); Iq(Typ)(mA): 0.5; Vout Adj(Max)(V): 5; Vout Adj(Min)(V): 5; Mounting Technology: Surface Mount; ComponentLink1Description: Manufacturer URL; ComponentLink1URL: http://www.ti.com/; ComponentLink2Description: Datasheet; ComponentLink2URL: http://www.ti.com/general/docs/lit/getliterature.tsp?genericPartNumber=REG103-5&fileType=pdf; ComponentLink3Description: Package Specification; ComponentLink3URL: http://www.ti.com/litv/pdf/mpds098c
footprint TI-DCQ6_N (SOT223, 6-Leads, Body 6.5x3.5mm, Pitch 1.27mm, IPC Medium Density)
footprint TI-DCQ6_L (SOT223, 6-Leads, Body 6.5x3.5mm, Pitch 1.27mm, IPC High Density)
footprint TI-DCQ6_M (SOT223, 6-Leads, Body 6.5x3.5mm, Pitch 1.27mm, IPC Low Density)
pins: 1 VIN (power), 2 VOUT (power), 3 GND (power), 4 NR, 5 EN (in), 6 GND (power)

## REG103GA-A
designator U?
Single Output Fast Transient Response LDO, 500 mA, Adjustable 1.295 to 5.5 V Output, 2.1 to 15 V Input, 6-pin SOT-223 (DCQ), -55 to 125 degC, Green (RoHS & no Sb/Br); Manufacturer: Texas Instruments; PartNumber: REG103GA-A; Accuracy(%): 2; Iout(Max)(A): 0.5; Power Good: TRUE; Rating: Catalog; SubFamily: Single Channel LDO; Vdo(Typ)(mV): 115; Vin(Max)(V): 15; Vin(Min)(V): 2.1; Vout Adj(Max)(V): 5.5; Vout Adj(Min)(V): 1.3; DatasheetVersion: SBVS010D; PackageVersion: 4202109/D; PackageReference: DCQ6; PackageDescription: 6-Pin Plastic Small Outline, Body 3.5 x 6.5 mm, Pitch 1.27 mm; Supplier 1: Digi-Key; Supplier Part Number 1: REG103GA-A-ND; Supplier 2: Newark; Supplier Part Number 2: 75C7504; Supplier 3: Mouser; Supplier Part Number 3: 595-REG103GA-A; Eco-Plan: Green (RoHS & no Sb/Br); Iq(Typ)(mA): 0.5; Mounting Technology: Surface Mount; ComponentLink1Description: Manufacturer URL; ComponentLink1URL: http://www.ti.com/; ComponentLink2Description: Datasheet; ComponentLink2URL: http://www.ti.com/general/docs/lit/getliterature.tsp?genericPartNumber=REG103-A&fileType=pdf; ComponentLink3Description: Package Specification; ComponentLink3URL: http://www.ti.com/litv/pdf/mpds098c
footprint TI-DCQ6_N (SOT223, 6-Leads, Body 6.5x3.5mm, Pitch 1.27mm, IPC Medium Density)
footprint TI-DCQ6_L (SOT223, 6-Leads, Body 6.5x3.5mm, Pitch 1.27mm, IPC High Density)
footprint TI-DCQ6_M (SOT223, 6-Leads, Body 6.5x3.5mm, Pitch 1.27mm, IPC Low Density)
pins: 1 VIN (power), 2 VOUT (power), 3 GND (power), 4 ADJ (in), 5 EN (in), 6 GND (power)

## REG103GA-AG4
designator U?
Single Output Fast Transient Response LDO, 500 mA, Adjustable 1.295 to 5.5 V Output, 2.1 to 15 V Input, 6-pin SOT-223 (DCQ), -55 to 125 degC, Green (RoHS & no Sb/Br); Manufacturer: Texas Instruments; PartNumber: REG103GA-AG4; Accuracy(%): 2; Iout(Max)(A): 0.5; Power Good: TRUE; Rating: Catalog; SubFamily: Single Channel LDO; Vdo(Typ)(mV): 115; Vin(Max)(V): 15; Vin(Min)(V): 2.1; Vout Adj(Max)(V): 5.5; Vout Adj(Min)(V): 1.3; DatasheetVersion: SBVS010D; PackageVersion: 4202109/D; PackageReference: DCQ6; PackageDescription: 6-Pin Plastic Small Outline, Body 3.5 x 6.5 mm, Pitch 1.27 mm; Supplier 1: Digi-Key; Supplier Part Number 1: REG103GA-AG4-ND; Supplier 2: Farnell; Supplier Part Number 2: 1207256; Supplier 3: Newark; Supplier Part Number 3: 61M8513; Supplier 4: Mouser; Supplier Part Number 4: 595-REG103GA-AG4; Eco-Plan: Green (RoHS & no Sb/Br); Iq(Typ)(mA): 0.5; Mounting Technology: Surface Mount; ComponentLink1Description: Manufacturer URL; ComponentLink1URL: http://www.ti.com/; ComponentLink2Description: Datasheet; ComponentLink2URL: http://www.ti.com/general/docs/lit/getliterature.tsp?genericPartNumber=REG103-A&fileType=pdf; ComponentLink3Description: Package Specification; ComponentLink3URL: http://www.ti.com/litv/pdf/mpds098c
footprint TI-DCQ6_N (SOT223, 6-Leads, Body 6.5x3.5mm, Pitch 1.27mm, IPC Medium Density)
footprint TI-DCQ6_L (SOT223, 6-Leads, Body 6.5x3.5mm, Pitch 1.27mm, IPC High Density)
footprint TI-DCQ6_M (SOT223, 6-Leads, Body 6.5x3.5mm, Pitch 1.27mm, IPC Low Density)
pins: 1 VIN (power), 2 VOUT (power), 3 GND (power), 4 ADJ (in), 5 EN (in), 6 GND (power)

## REG103UA-2.5
designator U?  (net tie)
Single Output Fast Transient Response LDO, 500 mA, Fixed 2.5 V Output, 2.1 to 15 V Input, 8-pin SOIC (D), -55 to 125 degC, Green (RoHS & no Sb/Br); Manufacturer: Texas Instruments; PartNumber: REG103UA-2.5; Accuracy(%): 2; Fixed Output Options(V): 2.5; Iout(Max)(A): 0.5; Power Good: TRUE; Rating: Catalog; SubFamily: Single Channel LDO; Vdo(Typ)(mV): 115; Vin(Max)(V): 15; Vin(Min)(V): 2.1; Vout Adj(Max)(V): 3; DatasheetVersion: SBVS010D; PackageVersion: 4040047-3/M; PackageReference: D8; PackageDescription: 8-Pin Plastic Small Outline, Body 4.9 x 3.9 mm, Pitch 1.27 mm; Supplier 1: Digi-Key; Supplier Part Number 1: REG103UA-2.5-ND; Supplier 2: Mouser; Supplier Part Number 2: 595-REG103UA-2.5; Eco-Plan: Green (RoHS & no Sb/Br); Iq(Typ)(mA): 0.5; Vout Adj(Min)(V): 2.5; Mounting Technology: Surface Mount; Code_JEDEC: MS-012; ComponentLink1Description: Manufacturer URL; ComponentLink1URL: http://www.ti.com/; ComponentLink2Description: Datasheet; ComponentLink2URL: http://www.ti.com/general/docs/lit/getliterature.tsp?genericPartNumber=REG103-25&fileType=pdf; ComponentLink3Description: Package Specification; ComponentLink3URL: http://www.ti.com/litv/pdf/msoi002j
footprint TI-D8_N (SOIC, 8-Leads, Body 4.9x3.9mm, Pitch 1.27mm, IPC Medium Density)
footprint TI-D8_L (SOIC, 8-Leads, Body 4.9x3.9mm, Pitch 1.27mm, IPC High Density)
footprint TI-D8_M (SOIC, 8-Leads, Body 4.9x3.9mm, Pitch 1.27mm, IPC Low Density)
pins: 1 VOUT (power), 2 VOUT (power), 3 NR, 4 GND (power), 5 EN (in), 6 ~{ERROR} (oc), 7 VIN (power), 8 VIN (power)

## REG103UA-2.5/2K5
designator U?  (net tie)
Single Output Fast Transient Response LDO, 500 mA, Fixed 2.5 V Output, 2.1 to 15 V Input, 8-pin SOIC (D), -55 to 125 degC, Green (RoHS & no Sb/Br); Manufacturer: Texas Instruments; PartNumber: REG103UA-2.5/2K5; Accuracy(%): 2; Fixed Output Options(V): 2.5; Iout(Max)(A): 0.5; Power Good: TRUE; Rating: Catalog; SubFamily: Single Channel LDO; Vdo(Typ)(mV): 115; Vin(Max)(V): 15; Vin(Min)(V): 2.1; Vout Adj(Max)(V): 3; DatasheetVersion: SBVS010D; PackageVersion: 4040047-3/M; PackageReference: D8; PackageDescription: 8-Pin Plastic Small Outline, Body 4.9 x 3.9 mm, Pitch 1.27 mm; Supplier 1: Digi-Key; Supplier Part Number 1: 296-29773-2-ND; Supplier 2: Digi-Key; Supplier Part Number 2: 296-29773-1-ND; Supplier 3: Digi-Key; Supplier Part Number 3: 296-29773-6-ND; Supplier 4: Mouser; Supplier Part Number 4: 595-REG103UA-2.5/2K5; Eco-Plan: Green (RoHS & no Sb/Br); Iq(Typ)(mA): 0.5; Vout Adj(Min)(V): 2.5; Mounting Technology: Surface Mount; Code_JEDEC: MS-012; ComponentLink1Description: Manufacturer URL; ComponentLink1URL: http://www.ti.com/; ComponentLink2Description: Datasheet; ComponentLink2URL: http://www.ti.com/general/docs/lit/getliterature.tsp?genericPartNumber=REG103-25&fileType=pdf; ComponentLink3Description: Package Specification; ComponentLink3URL: http://www.ti.com/litv/pdf/msoi002j
footprint TI-D8_N (SOIC, 8-Leads, Body 4.9x3.9mm, Pitch 1.27mm, IPC Medium Density)
footprint TI-D8_L (SOIC, 8-Leads, Body 4.9x3.9mm, Pitch 1.27mm, IPC High Density)
footprint TI-D8_M (SOIC, 8-Leads, Body 4.9x3.9mm, Pitch 1.27mm, IPC Low Density)
pins: 1 VOUT (power), 2 VOUT (power), 3 NR, 4 GND (power), 5 EN (in), 6 ~{ERROR} (oc), 7 VIN (power), 8 VIN (power)

## REG103UA-2.5/2K5G4
designator U?  (net tie)
Single Output Fast Transient Response LDO, 500 mA, Fixed 2.5 V Output, 2.1 to 15 V Input, 8-pin SOIC (D), -55 to 125 degC, Green (RoHS & no Sb/Br); Manufacturer: Texas Instruments; PartNumber: REG103UA-2.5/2K5G4; Accuracy(%): 2; Fixed Output Options(V): 2.5; Iout(Max)(A): 0.5; Power Good: TRUE; Rating: Catalog; SubFamily: Single Channel LDO; Vdo(Typ)(mV): 115; Vin(Max)(V): 15; Vin(Min)(V): 2.1; Vout Adj(Max)(V): 3; DatasheetVersion: SBVS010D; PackageVersion: 4040047-3/M; PackageReference: D8; PackageDescription: 8-Pin Plastic Small Outline, Body 4.9 x 3.9 mm, Pitch 1.27 mm; Supplier 1: Digi-Key; Supplier Part Number 1: REG103UA-2.5/2K5G4-ND; Supplier 2: Mouser; Supplier Part Number 2: 595-REG103UA-252K5G4; Eco-Plan: Green (RoHS & no Sb/Br); Iq(Typ)(mA): 0.5; Vout Adj(Min)(V): 2.5; Mounting Technology: Surface Mount; Code_JEDEC: MS-012; ComponentLink1Description: Manufacturer URL; ComponentLink1URL: http://www.ti.com/; ComponentLink2Description: Datasheet; ComponentLink2URL: http://www.ti.com/general/docs/lit/getliterature.tsp?genericPartNumber=REG103-25&fileType=pdf; ComponentLink3Description: Package Specification; ComponentLink3URL: http://www.ti.com/litv/pdf/msoi002j
footprint TI-D8_N (SOIC, 8-Leads, Body 4.9x3.9mm, Pitch 1.27mm, IPC Medium Density)
footprint TI-D8_L (SOIC, 8-Leads, Body 4.9x3.9mm, Pitch 1.27mm, IPC High Density)
footprint TI-D8_M (SOIC, 8-Leads, Body 4.9x3.9mm, Pitch 1.27mm, IPC Low Density)
pins: 1 VOUT (power), 2 VOUT (power), 3 NR, 4 GND (power), 5 EN (in), 6 ~{ERROR} (oc), 7 VIN (power), 8 VIN (power)

## REG103UA-2.5G4
designator U?  (net tie)
Single Output Fast Transient Response LDO, 500 mA, Fixed 2.5 V Output, 2.1 to 15 V Input, 8-pin SOIC (D), -55 to 125 degC, Green (RoHS & no Sb/Br); Manufacturer: Texas Instruments; PartNumber: REG103UA-2.5G4; Accuracy(%): 2; Fixed Output Options(V): 2.5; Iout(Max)(A): 0.5; Power Good: TRUE; Rating: Catalog; SubFamily: Single Channel LDO; Vdo(Typ)(mV): 115; Vin(Max)(V): 15; Vin(Min)(V): 2.1; Vout Adj(Max)(V): 3; DatasheetVersion: SBVS010D; PackageVersion: 4040047-3/M; PackageReference: D8; PackageDescription: 8-Pin Plastic Small Outline, Body 4.9 x 3.9 mm, Pitch 1.27 mm; Supplier 1: Digi-Key; Supplier Part Number 1: REG103UA-2.5G4-ND; Supplier 2: Mouser; Supplier Part Number 2: 595-REG103UA-2.5G4; Eco-Plan: Green (RoHS & no Sb/Br); Iq(Typ)(mA): 0.5; Vout Adj(Min)(V): 2.5; Mounting Technology: Surface Mount; Code_JEDEC: MS-012; ComponentLink1Description: Manufacturer URL; ComponentLink1URL: http://www.ti.com/; ComponentLink2Description: Datasheet; ComponentLink2URL: http://www.ti.com/general/docs/lit/getliterature.tsp?genericPartNumber=REG103-25&fileType=pdf; ComponentLink3Description: Package Specification; ComponentLink3URL: http://www.ti.com/litv/pdf/msoi002j
footprint TI-D8_N (SOIC, 8-Leads, Body 4.9x3.9mm, Pitch 1.27mm, IPC Medium Density)
footprint TI-D8_L (SOIC, 8-Leads, Body 4.9x3.9mm, Pitch 1.27mm, IPC High Density)
footprint TI-D8_M (SOIC, 8-Leads, Body 4.9x3.9mm, Pitch 1.27mm, IPC Low Density)
pins: 1 VOUT (power), 2 VOUT (power), 3 NR, 4 GND (power), 5 EN (in), 6 ~{ERROR} (oc), 7 VIN (power), 8 VIN (power)

## REG103UA-3.3
designator U?
Single Output Fast Transient Response LDO, 500 mA, Fixed 3.3 V Output, 2.1 to 15 V Input, 8-pin SOIC (D), -40 to 85 degC, Green (RoHS & no Sb/Br); Manufacturer: Texas Instruments; PartNumber: REG103UA-3.3; Accuracy(%): 2; Fixed Output Options(V): 3.3; Iout(Max)(A): 0.5; Power Good: TRUE; Rating: Catalog; SubFamily: Single Channel LDO; Vdo(Typ)(mV): 115; Vin(Max)(V): 15; Vin(Min)(V): 2.1; DatasheetVersion: SBVS010D; PackageVersion: 4040047-3/M; PackageReference: D8; PackageDescription: 8-Pin Plastic Small Outline, Body 4.9 x 3.9 mm, Pitch 1.27 mm; Supplier 1: Digi-Key; Supplier Part Number 1: REG103UA-3.3-ND; Supplier 2: Newark; Supplier Part Number 2: 75C7523; Supplier 3: Mouser; Supplier Part Number 3: 595-REG103UA-3.3; Eco-Plan: Green (RoHS & no Sb/Br); Iq(Typ)(mA): 0.5; Vout Adj(Max)(V): 3.3; Vout Adj(Min)(V): 3.3; Mounting Technology: Surface Mount; Code_JEDEC: MS-012; ComponentLink1Description: Manufacturer URL; ComponentLink1URL: http://www.ti.com/; ComponentLink2Description: Datasheet; ComponentLink2URL: http://www.ti.com/general/docs/lit/getliterature.tsp?genericPartNumber=REG103-33&fileType=pdf; ComponentLink3Description: Package Specification; ComponentLink3URL: http://www.ti.com/litv/pdf/msoi002j
footprint TI-D8_N (SOIC, 8-Leads, Body 4.9x3.9mm, Pitch 1.27mm, IPC Medium Density)
footprint TI-D8_L (SOIC, 8-Leads, Body 4.9x3.9mm, Pitch 1.27mm, IPC High Density)
footprint TI-D8_M (SOIC, 8-Leads, Body 4.9x3.9mm, Pitch 1.27mm, IPC Low Density)
pins: 1 VOUT (power), 2 VOUT (power), 3 NR, 4 GND (power), 5 EN (in), 6 ~{ERROR} (oc), 7 VIN (power), 8 VIN (power)

## REG103UA-3.3G4
designator U?
Single Output Fast Transient Response LDO, 500 mA, Fixed 3.3 V Output, 2.1 to 15 V Input, 8-pin SOIC (D), -40 to 85 degC, Green (RoHS & no Sb/Br); Manufacturer: Texas Instruments; PartNumber: REG103UA-3.3G4; Accuracy(%): 2; Fixed Output Options(V): 3.3; Iout(Max)(A): 0.5; Power Good: TRUE; Rating: Catalog; SubFamily: Single Channel LDO; Vdo(Typ)(mV): 115; Vin(Max)(V): 15; Vin(Min)(V): 2.1; DatasheetVersion: SBVS010D; PackageVersion: 4040047-3/M; PackageReference: D8; PackageDescription: 8-Pin Plastic Small Outline, Body 4.9 x 3.9 mm, Pitch 1.27 mm; Supplier 1: Digi-Key; Supplier Part Number 1: REG103UA-3.3G4-ND; Supplier 2: Mouser; Supplier Part Number 2: 595-REG103UA-3.3G4; Eco-Plan: Green (RoHS & no Sb/Br); Iq(Typ)(mA): 0.5; Vout Adj(Max)(V): 3.3; Vout Adj(Min)(V): 3.3; Mounting Technology: Surface Mount; Code_JEDEC: MS-012; ComponentLink1Description: Manufacturer URL; ComponentLink1URL: http://www.ti.com/; ComponentLink2Description: Datasheet; ComponentLink2URL: http://www.ti.com/general/docs/lit/getliterature.tsp?genericPartNumber=REG103-33&fileType=pdf; ComponentLink3Description: Package Specification; ComponentLink3URL: http://www.ti.com/litv/pdf/msoi002j
footprint TI-D8_N (SOIC, 8-Leads, Body 4.9x3.9mm, Pitch 1.27mm, IPC Medium Density)
footprint TI-D8_L (SOIC, 8-Leads, Body 4.9x3.9mm, Pitch 1.27mm, IPC High Density)
footprint TI-D8_M (SOIC, 8-Leads, Body 4.9x3.9mm, Pitch 1.27mm, IPC Low Density)
pins: 1 VOUT (power), 2 VOUT (power), 3 NR, 4 GND (power), 5 EN (in), 6 ~{ERROR} (oc), 7 VIN (power), 8 VIN (power)